# Altium schematic symbol library All Parts.SchLib: 16 symbols
Pins are listed as number, name and electrical type; pins without a type are passive.

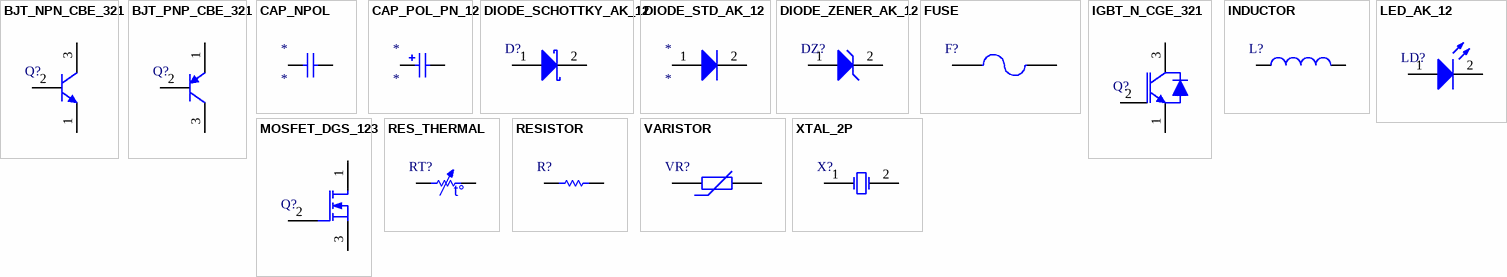
[diagram p0: symbols BJT_NPN_CBE_321 to XTAL_2P]

## BJT_NPN_CBE_321
designator Q?
pins: 1 E, 2 B, 3 C

## BJT_PNP_CBE_321
designator Q?
pins: 1 E, 2 B, 3 C

## CAP_NPOL
designator *
pins: 1, 2

## CAP_POL_PN_12
designator *
pins: 1, 2

## DIODE_SCHOTTKY_AK_12
designator D?
pins: 1 A, 2 K

## DIODE_STD_AK_12
designator *
pins: 1 A, 2 K

## DIODE_ZENER_AK_12
designator DZ?
pins: 1 A, 2 K

## FUSE
designator F?
pins: 1, 2

## IGBT_N_CGE_321
designator Q?
pins: 1 E, 2 B, 3 C

## INDUCTOR
designator L?
pins: 1, 2

## LED_AK_12
designator LD?
pins: 1 A, 2 K

## MOSFET_DGS_123
designator Q?
pins: 1 D, 2 G, 3 S

## RES_THERMAL
designator RT?
pins: 1, 2
text: t°

## RESISTOR
designator R?
pins: 1, 2

## VARISTOR
designator VR?
pins: 1, 2

## XTAL_2P
designator X?
pins: 1 OSC1, 2 OSC2